# Altium schematic symbol library pporyzala-TI_Lighting.SchLib: 745 symbols (part 30 of 48)
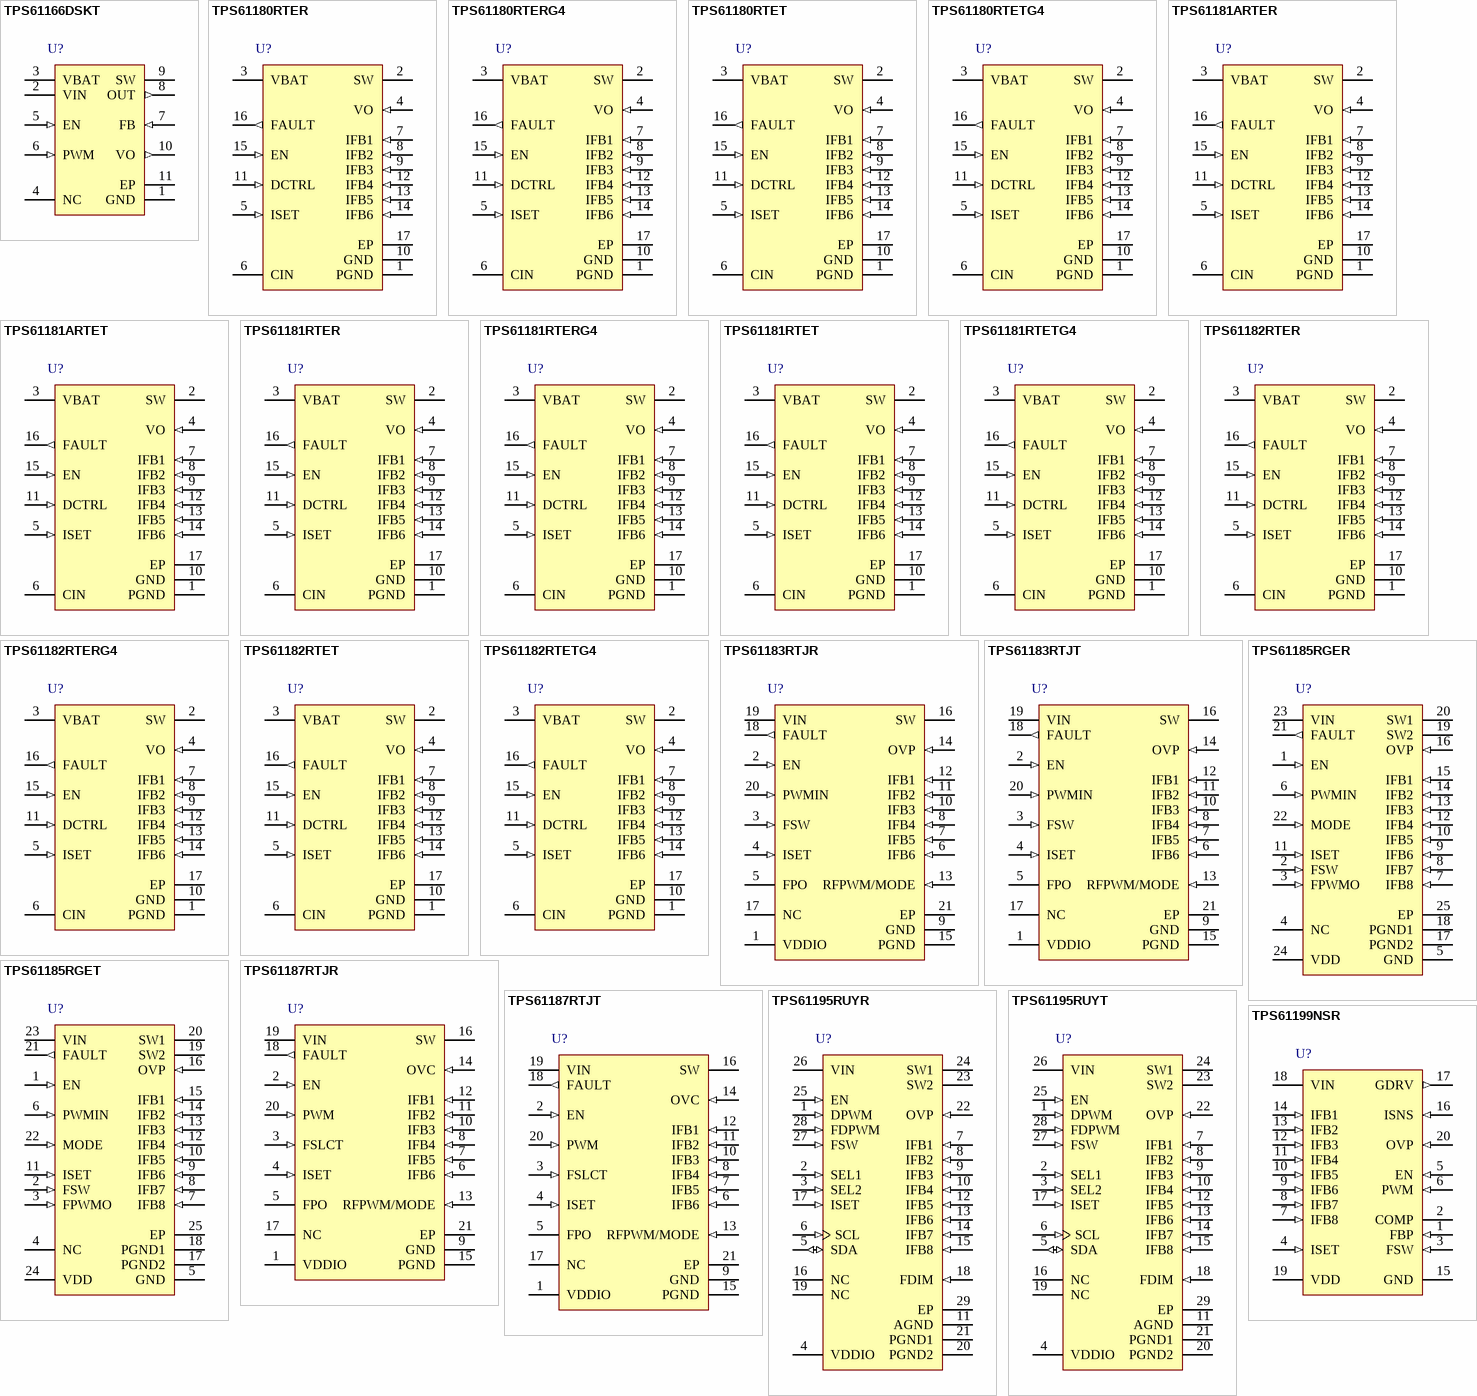
[diagram p60: symbols TPS61166DSKT to TPS61199NSR]

## TPS61181RTET
designator U?
1.5 A White LED Driver for Notebooks, 2.7 to 3.6 V, -40 to 85 degC, 16-pin QFN (RTE16), Green (RoHS & no Sb/Br); Manufacturer: Texas Instruments; PartNumber: TPS61181RTET; Dimming: TRUE; Iout(Max)(A): 1.5; Iq(Typ)(mA): 2; Rating: Catalog; Switching Frequency(Max)(kHz): 1000; Topology: Boost; Vin(Max)(V): 3.6; Vin(Min)(V): 2.7; DatasheetVersion: SLVS801D; PackageVersion: 4205254/D; PackageReference: RTE16-1700X1700TP; PackageDescription: 16-Pin Plastic Flat Pack, Body 3 x 3 mm, Pitch 0.5 mm; Supplier 1: Digi-Key; Supplier Part Number 1: 296-32503-2-ND; Supplier 2: Digi-Key; Supplier Part Number 2: 296-32503-1-ND; Supplier 3: Digi-Key; Supplier Part Number 3: 296-32503-6-ND; Supplier 4: Newark; Supplier Part Number 4: 72M5952; Supplier 5: Mouser; Supplier Part Number 5: 595-TPS61181RTET; Eco-Plan: Green (RoHS & no Sb/Br); SubFamily: White LED Driver; Synchronous Rectification: TRUE; Mounting Technology: Surface Mount; Code_JEDEC: MO-220; ComponentLink1Description: Manufacturer URL; ComponentLink1URL: http://www.ti.com/; ComponentLink2Description: Datasheet; ComponentLink2URL: http://www.ti.com/general/docs/lit/getliterature.tsp?genericPartNumber=TPS61181&fileType=pdf; ComponentLink3Description: Package Specification; ComponentLink3URL: http://www.ti.com/litv/pdf/mpqf149c
footprint TI-RTE16-1700X1700TP_V (QFN, 16-Leads, Body 3x3mm, Pitch 0.5mm, Thermal Pad 1.7x1.7mm)
pins: 1 PGND (power) "Power ground of the IC. Internally, it connects to the source of the PWM switch.", 2 SW (power) "This pin connects to the drain of the internal PWM switch, external Schottky diode and inductor.", 3 VBAT (power) "This pin is connected to the battery supply. It provides the pull-up voltage for the Fault pin and battery voltage signal. For TPS61181/2, this is also the input to the internal LDO.", 4 VO (in) "This pin monitors the output of the boost regulator. Connect this pin to the anode of the WLED strings.", 5 ISET (in) "The resistor on this pin programs the WLED output current.", 6 CIN (power) "Supply voltage of the IC. For TPS61181/2, it is the output of the internal LDO. Connect 0.1 uF bypass capacitor to this pin. For TPS61180, connect an external 3.3 V supply to power the IC.", 7 IFB1 (in) "Current sink regulation inputs. They are connected to the cathode of WLEDs. The PWM loop regulates the lowest VIFB to 400 mV. Each channel is limited to 25 mA current.", 8 IFB2 (in) "Current sink regulation inputs. They are connected to the cathode of WLEDs. The PWM loop regulates the lowest VIFB to 400 mV. Each channel is limited to 25 mA current.", 9 IFB3 (in) "Current sink regulation inputs. They are connected to the cathode of WLEDs. The PWM loop regulates the lowest VIFB to 400 mV. Each channel is limited to 25 mA current.", 10 GND (power) "Signal ground of the IC.", 11 DCTRL (in) "Dimming control logic input. The dimming frequency range is 100 Hz to 1 kHz", 12 IFB4 (in) "Current sink regulation inputs. They are connected to the cathode of WLEDs. The PWM loop regulates the lowest VIFB to 400 mV. Each channel is limited to 25 mA current.", 13 IFB5 (in) "Current sink regulation inputs. They are connected to the cathode of WLEDs. The PWM loop regulates the lowest VIFB to 400 mV. Each channel is limited to 25 mA current.", 14 IFB6 (in) "Current sink regulation inputs. They are connected to the cathode of WLEDs. The PWM loop regulates the lowest VIFB to 400 mV. Each channel is limited to 25 mA current.", 15 EN (in) "The enable pin to the IC. For TPS61181/2, a logic high signal turns on the internal LDO and enables the IC. Therefore, do not connect the EN pin to the Cin pin.", 16 FAULT (out) "Gate driver output for an external PFET used for fault protection. It can also be used as signal output for system fault report.", 17 EP "Exposed Thermal Pad"

## TPS61181RTETG4
designator U?
1.5 A White LED Driver for Notebooks, 2.7 to 3.6 V, -40 to 85 degC, 16-pin QFN (RTE16), Green (RoHS & no Sb/Br); Manufacturer: Texas Instruments; PartNumber: TPS61181RTETG4; Dimming: TRUE; Iout(Max)(A): 1.5; Iq(Typ)(mA): 2; Rating: Catalog; Switching Frequency(Max)(kHz): 1000; Topology: Boost; Vin(Max)(V): 3.6; Vin(Min)(V): 2.7; DatasheetVersion: SLVS801D; PackageVersion: 4205254/D; PackageReference: RTE16-1700X1700TP; PackageDescription: 16-Pin Plastic Flat Pack, Body 3 x 3 mm, Pitch 0.5 mm; Supplier 1: Digi-Key; Supplier Part Number 1: TPS61181RTETG4-ND; Supplier 2: Mouser; Supplier Part Number 2: 595-TPS61181RTETG4; Eco-Plan: Green (RoHS & no Sb/Br); SubFamily: White LED Driver; Synchronous Rectification: TRUE; Mounting Technology: Surface Mount; Code_JEDEC: MO-220; ComponentLink1Description: Manufacturer URL; ComponentLink1URL: http://www.ti.com/; ComponentLink2Description: Datasheet; ComponentLink2URL: http://www.ti.com/general/docs/lit/getliterature.tsp?genericPartNumber=TPS61181&fileType=pdf; ComponentLink3Description: Package Specification; ComponentLink3URL: http://www.ti.com/litv/pdf/mpqf149c
footprint TI-RTE16-1700X1700TP_V (QFN, 16-Leads, Body 3x3mm, Pitch 0.5mm, Thermal Pad 1.7x1.7mm)
pins: 1 PGND (power) "Power ground of the IC. Internally, it connects to the source of the PWM switch.", 2 SW (power) "This pin connects to the drain of the internal PWM switch, external Schottky diode and inductor.", 3 VBAT (power) "This pin is connected to the battery supply. It provides the pull-up voltage for the Fault pin and battery voltage signal. For TPS61181/2, this is also the input to the internal LDO.", 4 VO (in) "This pin monitors the output of the boost regulator. Connect this pin to the anode of the WLED strings.", 5 ISET (in) "The resistor on this pin programs the WLED output current.", 6 CIN (power) "Supply voltage of the IC. For TPS61181/2, it is the output of the internal LDO. Connect 0.1 uF bypass capacitor to this pin. For TPS61180, connect an external 3.3 V supply to power the IC.", 7 IFB1 (in) "Current sink regulation inputs. They are connected to the cathode of WLEDs. The PWM loop regulates the lowest VIFB to 400 mV. Each channel is limited to 25 mA current.", 8 IFB2 (in) "Current sink regulation inputs. They are connected to the cathode of WLEDs. The PWM loop regulates the lowest VIFB to 400 mV. Each channel is limited to 25 mA current.", 9 IFB3 (in) "Current sink regulation inputs. They are connected to the cathode of WLEDs. The PWM loop regulates the lowest VIFB to 400 mV. Each channel is limited to 25 mA current.", 10 GND (power) "Signal ground of the IC.", 11 DCTRL (in) "Dimming control logic input. The dimming frequency range is 100 Hz to 1 kHz", 12 IFB4 (in) "Current sink regulation inputs. They are connected to the cathode of WLEDs. The PWM loop regulates the lowest VIFB to 400 mV. Each channel is limited to 25 mA current.", 13 IFB5 (in) "Current sink regulation inputs. They are connected to the cathode of WLEDs. The PWM loop regulates the lowest VIFB to 400 mV. Each channel is limited to 25 mA current.", 14 IFB6 (in) "Current sink regulation inputs. They are connected to the cathode of WLEDs. The PWM loop regulates the lowest VIFB to 400 mV. Each channel is limited to 25 mA current.", 15 EN (in) "The enable pin to the IC. For TPS61181/2, a logic high signal turns on the internal LDO and enables the IC. Therefore, do not connect the EN pin to the Cin pin.", 16 FAULT (out) "Gate driver output for an external PFET used for fault protection. It can also be used as signal output for system fault report.", 17 EP "Exposed Thermal Pad"

## TPS61182RTER
designator U?
1.5 A White LED Driver for Notebooks, 2.7 to 3.6 V, -40 to 85 degC, 16-pin QFN (RTE16), Green (RoHS & no Sb/Br); Manufacturer: Texas Instruments; PartNumber: TPS61182RTER; Dimming: TRUE; Iout(Max)(A): 1.5; Iq(Typ)(mA): 2; Rating: Catalog; Switching Frequency(Max)(kHz): 1300; Topology: Boost; Vin(Max)(V): 3.6; Vin(Min)(V): 2.7; DatasheetVersion: SLVS801D; PackageVersion: 4205254/D; PackageReference: RTE16-1700X1700TP; PackageDescription: 16-Pin Plastic Flat Pack, Body 3 x 3 mm, Pitch 0.5 mm; Supplier 1: Digi-Key; Supplier Part Number 1: 296-23379-2-ND; Supplier 2: Digi-Key; Supplier Part Number 2: 296-23379-1-ND; Supplier 3: Digi-Key; Supplier Part Number 3: 296-23379-6-ND; Supplier 4: Newark; Supplier Part Number 4: 73M7845; Supplier 5: Mouser; Supplier Part Number 5: 595-TPS61182RTER; Eco-Plan: Green (RoHS & no Sb/Br); SubFamily: White LED Driver; Synchronous Rectification: TRUE; Mounting Technology: Surface Mount; Code_JEDEC: MO-220; ComponentLink1Description: Manufacturer URL; ComponentLink1URL: http://www.ti.com/; ComponentLink2Description: Datasheet; ComponentLink2URL: http://www.ti.com/general/docs/lit/getliterature.tsp?genericPartNumber=TPS61182&fileType=pdf; ComponentLink3Description: Package Specification; ComponentLink3URL: http://www.ti.com/litv/pdf/mpqf149c
footprint TI-RTE16-1700X1700TP_V (QFN, 16-Leads, Body 3x3mm, Pitch 0.5mm, Thermal Pad 1.7x1.7mm)
pins: 1 PGND (power) "Power ground of the IC. Internally, it connects to the source of the PWM switch.", 2 SW (power) "This pin connects to the drain of the internal PWM switch, external Schottky diode and inductor.", 3 VBAT (power) "This pin is connected to the battery supply. It provides the pull-up voltage for the Fault pin and battery voltage signal. This is also the input to the internal LDO.", 4 VO (in) "This pin monitors the output of the boost regulator. Connect this pin to the anode of the WLED strings.", 5 ISET (in) "The resistor on this pin programs the WLED output current.", 6 CIN (power) "Supply voltage of the IC. It is the output of the internal LDO. Connect 0.1 uF bypass capacitor to this pin.", 7 IFB1 (in) "Current sink regulation inputs. They are connected to the cathode of WLEDs. The PWM loop regulates the lowest VIFB to 400 mV. Each channel is limited to 30 mA current.", 8 IFB2 (in) "Current sink regulation inputs. They are connected to the cathode of WLEDs. The PWM loop regulates the lowest VIFB to 400 mV. Each channel is limited to 30 mA current.", 9 IFB3 (in) "Current sink regulation inputs. They are connected to the cathode of WLEDs. The PWM loop regulates the lowest VIFB to 400 mV. Each channel is limited to 30 mA current.", 10 GND (power) "Signal ground of the IC.", 11 DCTRL (in) "Dimming control logic input. The dimming frequency range is 100 Hz to 1 kHz.", 12 IFB4 (in) "Current sink regulation inputs. They are connected to the cathode of WLEDs. The PWM loop regulates the lowest VIFB to 400 mV. Each channel is limited to 30 mA current.", 13 IFB5 (in) "Current sink regulation inputs. They are connected to the cathode of WLEDs. The PWM loop regulates the lowest VIFB to 400 mV. Each channel is limited to 30 mA current.", 14 IFB6 (in) "Current sink regulation inputs. They are connected to the cathode of WLEDs. The PWM loop regulates the lowest VIFB to 400 mV. Each channel is limited to 30 mA current.", 15 EN (in) "The enable pin to the IC. A logic high signal turns on the internal LDO and enables the IC. Therefore, do not connect the EN pin to the Cin pin.", 16 FAULT (out) "Gate driver output for an external PFET used for fault protection. It can also be used as signal output for system fault report.", 17 EP (power) "Exposed thermal pad."

## TPS61182RTERG4
designator U?
1.5 A White LED Driver for Notebooks, 2.7 to 3.6 V, -40 to 85 degC, 16-pin QFN (RTE16), Green (RoHS & no Sb/Br); Manufacturer: Texas Instruments; PartNumber: TPS61182RTERG4; Dimming: TRUE; Iout(Max)(A): 1.5; Iq(Typ)(mA): 2; Rating: Catalog; Switching Frequency(Max)(kHz): 1300; Topology: Boost; Vin(Max)(V): 3.6; Vin(Min)(V): 2.7; DatasheetVersion: SLVS801D; PackageVersion: 4205254/D; PackageReference: RTE16-1700X1700TP; PackageDescription: 16-Pin Plastic Flat Pack, Body 3 x 3 mm, Pitch 0.5 mm; Supplier 1: Digi-Key; Supplier Part Number 1: TPS61182RTERG4-ND; Supplier 2: Mouser; Supplier Part Number 2: 595-TPS61182RTERG4; Eco-Plan: Green (RoHS & no Sb/Br); SubFamily: White LED Driver; Synchronous Rectification: TRUE; Mounting Technology: Surface Mount; Code_JEDEC: MO-220; ComponentLink1Description: Manufacturer URL; ComponentLink1URL: http://www.ti.com/; ComponentLink2Description: Datasheet; ComponentLink2URL: http://www.ti.com/general/docs/lit/getliterature.tsp?genericPartNumber=TPS61182&fileType=pdf; ComponentLink3Description: Package Specification; ComponentLink3URL: http://www.ti.com/litv/pdf/mpqf149c
footprint TI-RTE16-1700X1700TP_V (QFN, 16-Leads, Body 3x3mm, Pitch 0.5mm, Thermal Pad 1.7x1.7mm)
pins: 1 PGND (power) "Power ground of the IC. Internally, it connects to the source of the PWM switch.", 2 SW (power) "This pin connects to the drain of the internal PWM switch, external Schottky diode and inductor.", 3 VBAT (power) "This pin is connected to the battery supply. It provides the pull-up voltage for the Fault pin and battery voltage signal. This is also the input to the internal LDO.", 4 VO (in) "This pin monitors the output of the boost regulator. Connect this pin to the anode of the WLED strings.", 5 ISET (in) "The resistor on this pin programs the WLED output current.", 6 CIN (power) "Supply voltage of the IC. It is the output of the internal LDO. Connect 0.1 uF bypass capacitor to this pin.", 7 IFB1 (in) "Current sink regulation inputs. They are connected to the cathode of WLEDs. The PWM loop regulates the lowest VIFB to 400 mV. Each channel is limited to 30 mA current.", 8 IFB2 (in) "Current sink regulation inputs. They are connected to the cathode of WLEDs. The PWM loop regulates the lowest VIFB to 400 mV. Each channel is limited to 30 mA current.", 9 IFB3 (in) "Current sink regulation inputs. They are connected to the cathode of WLEDs. The PWM loop regulates the lowest VIFB to 400 mV. Each channel is limited to 30 mA current.", 10 GND (power) "Signal ground of the IC.", 11 DCTRL (in) "Dimming control logic input. The dimming frequency range is 100 Hz to 1 kHz.", 12 IFB4 (in) "Current sink regulation inputs. They are connected to the cathode of WLEDs. The PWM loop regulates the lowest VIFB to 400 mV. Each channel is limited to 30 mA current.", 13 IFB5 (in) "Current sink regulation inputs. They are connected to the cathode of WLEDs. The PWM loop regulates the lowest VIFB to 400 mV. Each channel is limited to 30 mA current.", 14 IFB6 (in) "Current sink regulation inputs. They are connected to the cathode of WLEDs. The PWM loop regulates the lowest VIFB to 400 mV. Each channel is limited to 30 mA current.", 15 EN (in) "The enable pin to the IC. A logic high signal turns on the internal LDO and enables the IC. Therefore, do not connect the EN pin to the Cin pin.", 16 FAULT (out) "Gate driver output for an external PFET used for fault protection. It can also be used as signal output for system fault report.", 17 EP (power) "Exposed thermal pad."

## TPS61182RTET
designator U?
1.5 A White LED Driver for Notebooks, 2.7 to 3.6 V, -40 to 85 degC, 16-pin QFN (RTE16), Green (RoHS & no Sb/Br); Manufacturer: Texas Instruments; PartNumber: TPS61182RTET; Dimming: TRUE; Iout(Max)(A): 1.5; Iq(Typ)(mA): 2; Rating: Catalog; Switching Frequency(Max)(kHz): 1300; Topology: Boost; Vin(Max)(V): 3.6; Vin(Min)(V): 2.7; DatasheetVersion: SLVS801D; PackageVersion: 4205254/D; PackageReference: RTE16-1700X1700TP; PackageDescription: 16-Pin Plastic Flat Pack, Body 3 x 3 mm, Pitch 0.5 mm; Supplier 1: Digi-Key; Supplier Part Number 1: 296-32504-2-ND; Supplier 2: Digi-Key; Supplier Part Number 2: 296-32504-1-ND; Supplier 3: Digi-Key; Supplier Part Number 3: 296-32504-6-ND; Supplier 4: Newark; Supplier Part Number 4: 72M5954; Supplier 5: Mouser; Supplier Part Number 5: 595-TPS61182RTET; Eco-Plan: Green (RoHS & no Sb/Br); SubFamily: White LED Driver; Synchronous Rectification: TRUE; Mounting Technology: Surface Mount; Code_JEDEC: MO-220; ComponentLink1Description: Manufacturer URL; ComponentLink1URL: http://www.ti.com/; ComponentLink2Description: Datasheet; ComponentLink2URL: http://www.ti.com/general/docs/lit/getliterature.tsp?genericPartNumber=TPS61182&fileType=pdf; ComponentLink3Description: Package Specification; ComponentLink3URL: http://www.ti.com/litv/pdf/mpqf149c
footprint TI-RTE16-1700X1700TP_V (QFN, 16-Leads, Body 3x3mm, Pitch 0.5mm, Thermal Pad 1.7x1.7mm)
pins: 1 PGND (power) "Power ground of the IC. Internally, it connects to the source of the PWM switch.", 2 SW (power) "This pin connects to the drain of the internal PWM switch, external Schottky diode and inductor.", 3 VBAT (power) "This pin is connected to the battery supply. It provides the pull-up voltage for the Fault pin and battery voltage signal. This is also the input to the internal LDO.", 4 VO (in) "This pin monitors the output of the boost regulator. Connect this pin to the anode of the WLED strings.", 5 ISET (in) "The resistor on this pin programs the WLED output current.", 6 CIN (power) "Supply voltage of the IC. It is the output of the internal LDO. Connect 0.1 uF bypass capacitor to this pin.", 7 IFB1 (in) "Current sink regulation inputs. They are connected to the cathode of WLEDs. The PWM loop regulates the lowest VIFB to 400 mV. Each channel is limited to 30 mA current.", 8 IFB2 (in) "Current sink regulation inputs. They are connected to the cathode of WLEDs. The PWM loop regulates the lowest VIFB to 400 mV. Each channel is limited to 30 mA current.", 9 IFB3 (in) "Current sink regulation inputs. They are connected to the cathode of WLEDs. The PWM loop regulates the lowest VIFB to 400 mV. Each channel is limited to 30 mA current.", 10 GND (power) "Signal ground of the IC.", 11 DCTRL (in) "Dimming control logic input. The dimming frequency range is 100 Hz to 1 kHz.", 12 IFB4 (in) "Current sink regulation inputs. They are connected to the cathode of WLEDs. The PWM loop regulates the lowest VIFB to 400 mV. Each channel is limited to 30 mA current.", 13 IFB5 (in) "Current sink regulation inputs. They are connected to the cathode of WLEDs. The PWM loop regulates the lowest VIFB to 400 mV. Each channel is limited to 30 mA current.", 14 IFB6 (in) "Current sink regulation inputs. They are connected to the cathode of WLEDs. The PWM loop regulates the lowest VIFB to 400 mV. Each channel is limited to 30 mA current.", 15 EN (in) "The enable pin to the IC. A logic high signal turns on the internal LDO and enables the IC. Therefore, do not connect the EN pin to the Cin pin.", 16 FAULT (out) "Gate driver output for an external PFET used for fault protection. It can also be used as signal output for system fault report.", 17 EP (power) "Exposed thermal pad."

## TPS61182RTETG4
designator U?
1.5 A White LED Driver for Notebooks, 2.7 to 3.6 V, -40 to 85 degC, 16-pin QFN (RTE16), Green (RoHS & no Sb/Br); Manufacturer: Texas Instruments; PartNumber: TPS61182RTETG4; Dimming: TRUE; Iout(Max)(A): 1.5; Iq(Typ)(mA): 2; Rating: Catalog; Switching Frequency(Max)(kHz): 1300; Topology: Boost; Vin(Max)(V): 3.6; Vin(Min)(V): 2.7; DatasheetVersion: SLVS801D; PackageVersion: 4205254/D; PackageReference: RTE16-1700X1700TP; PackageDescription: 16-Pin Plastic Flat Pack, Body 3 x 3 mm, Pitch 0.5 mm; Supplier 1: Digi-Key; Supplier Part Number 1: TPS61182RTETG4-ND; Supplier 2: Mouser; Supplier Part Number 2: 595-TPS61182RTETG4; Eco-Plan: Green (RoHS & no Sb/Br); SubFamily: White LED Driver; Synchronous Rectification: TRUE; Mounting Technology: Surface Mount; Code_JEDEC: MO-220; ComponentLink1Description: Manufacturer URL; ComponentLink1URL: http://www.ti.com/; ComponentLink2Description: Datasheet; ComponentLink2URL: http://www.ti.com/general/docs/lit/getliterature.tsp?genericPartNumber=TPS61182&fileType=pdf; ComponentLink3Description: Package Specification; ComponentLink3URL: http://www.ti.com/litv/pdf/mpqf149c
footprint TI-RTE16-1700X1700TP_V (QFN, 16-Leads, Body 3x3mm, Pitch 0.5mm, Thermal Pad 1.7x1.7mm)
pins: 1 PGND (power) "Power ground of the IC. Internally, it connects to the source of the PWM switch.", 2 SW (power) "This pin connects to the drain of the internal PWM switch, external Schottky diode and inductor.", 3 VBAT (power) "This pin is connected to the battery supply. It provides the pull-up voltage for the Fault pin and battery voltage signal. This is also the input to the internal LDO.", 4 VO (in) "This pin monitors the output of the boost regulator. Connect this pin to the anode of the WLED strings.", 5 ISET (in) "The resistor on this pin programs the WLED output current.", 6 CIN (power) "Supply voltage of the IC. It is the output of the internal LDO. Connect 0.1 uF bypass capacitor to this pin.", 7 IFB1 (in) "Current sink regulation inputs. They are connected to the cathode of WLEDs. The PWM loop regulates the lowest VIFB to 400 mV. Each channel is limited to 30 mA current.", 8 IFB2 (in) "Current sink regulation inputs. They are connected to the cathode of WLEDs. The PWM loop regulates the lowest VIFB to 400 mV. Each channel is limited to 30 mA current.", 9 IFB3 (in) "Current sink regulation inputs. They are connected to the cathode of WLEDs. The PWM loop regulates the lowest VIFB to 400 mV. Each channel is limited to 30 mA current.", 10 GND (power) "Signal ground of the IC.", 11 DCTRL (in) "Dimming control logic input. The dimming frequency range is 100 Hz to 1 kHz.", 12 IFB4 (in) "Current sink regulation inputs. They are connected to the cathode of WLEDs. The PWM loop regulates the lowest VIFB to 400 mV. Each channel is limited to 30 mA current.", 13 IFB5 (in) "Current sink regulation inputs. They are connected to the cathode of WLEDs. The PWM loop regulates the lowest VIFB to 400 mV. Each channel is limited to 30 mA current.", 14 IFB6 (in) "Current sink regulation inputs. They are connected to the cathode of WLEDs. The PWM loop regulates the lowest VIFB to 400 mV. Each channel is limited to 30 mA current.", 15 EN (in) "The enable pin to the IC. A logic high signal turns on the internal LDO and enables the IC. Therefore, do not connect the EN pin to the Cin pin.", 16 FAULT (out) "Gate driver output for an external PFET used for fault protection. It can also be used as signal output for system fault report.", 17 EP (power) "Exposed thermal pad."

## TPS61183RTJR
designator U?
WLED Driver for Notebooks with PWM Interface and Programmable PWM Dimming, 4.5 to 24 V, -40 to 85 degC, 20-pin QFN (RTJ20), Green (RoHS & no Sb/Br); Manufacturer: Texas Instruments; PartNumber: TPS61183RTJR; Dimming: TRUE; Rating: Catalog; SubFamily: White LED Driver; Switching Frequency(Max)(kHz): 1200; Topology: Boost; Vin(Max)(V): 24; Vin(Min)(V): 4.5; DatasheetVersion: SLVSAB4B; PackageVersion: 4205505/F; PackageReference: RTJ20-2700X2700TP; PackageDescription: 20-pin Plastic Flat Pack, Body 4 x 4 mm, Pitch 0.5 mm; Supplier 1: Digi-Key; Supplier Part Number 1: TPS61183RTJR-ND; Supplier 2: Newark; Supplier Part Number 2: 01T0836; Supplier 3: Mouser; Supplier Part Number 3: 595-TPS61183RTJR; Eco-Plan: Green (RoHS & no Sb/Br); Synchronous Rectification: TRUE; Mounting Technology: Surface Mount; ComponentLink1Description: Manufacturer URL; ComponentLink1URL: http://www.ti.com/; ComponentLink2Description: Datasheet; ComponentLink2URL: http://www.ti.com/general/docs/lit/getliterature.tsp?genericPartNumber=TPS61183&fileType=pdf; ComponentLink3Description: Package Specification; ComponentLink3URL: http://www.ti.com/litv/pdf/mpqf156e
footprint TI-RTJ20-2700X2700TP_V (QFN, 20-Leads, Body 4x4mm, Pitch 0.5mm, Thermal Pad 2.7x2.7mm)
pins: 1 VDDIO (power) "Internal pre_regulator. Connect a 1 uF ceramic capacitor to VDDIO.", 2 EN (in) "Enable", 3 FSW (in) "Switching frequency selection pin. Use a resistor to set the frequency between 300kHz to 1.0MHz", 4 ISET (in) "Full-scale LED current set pin. Connecting a resistor to the pin programs the current level.", 5 FPO (oc) "Fault protection output to indicate fault conditions including OVP, OC, and OT", 6 IFB6 (in) "Regulated current sink input pins", 7 IFB5 (in) "Regulated current sink input pins", 8 IFB4 (in) "Regulated current sink input pins", 9 GND (power) "Analog ground", 10 IFB3 (in) "Regulated current sink input pins", 11 IFB2 (in) "Regulated current sink input pins", 12 IFB1 (in) "Regulated current sink input pins", 13 RFPWM/MODE (in) "Dimming frequency program pin with an external resistor / mode selection", 14 OVP (in) "Over-voltage clamp pin / voltage feedback", 15 PGND (power) "Power ground", 16 SW (power) "Drain connection of the internal power FET", 17 NC "No connection", 18 FAULT (out) "Fault pin to drive external ISO FET", 19 VIN (power) "Supply input pin", 20 PWMIN (in) "PWM signal input pin", 21 EP "Exopsed Thermal Pad"

## TPS61183RTJT
designator U?
WLED Driver for Notebooks with PWM Interface and Programmable PWM Dimming, 4.5 to 24 V, -40 to 85 degC, 20-pin QFN (RTJ20), Green (RoHS & no Sb/Br); Manufacturer: Texas Instruments; PartNumber: TPS61183RTJT; Dimming: TRUE; Rating: Catalog; SubFamily: White LED Driver; Switching Frequency(Max)(kHz): 1200; Topology: Boost; Vin(Max)(V): 24; Vin(Min)(V): 4.5; DatasheetVersion: SLVSAB4B; PackageVersion: 4205505/F; PackageReference: RTJ20-2700X2700TP; PackageDescription: 20-pin Plastic Flat Pack, Body 4 x 4 mm, Pitch 0.5 mm; Supplier 1: Digi-Key; Supplier Part Number 1: 296-27754-2-ND; Supplier 2: Digi-Key; Supplier Part Number 2: 296-27754-1-ND; Supplier 3: Digi-Key; Supplier Part Number 3: 296-27754-6-ND; Supplier 4: Newark; Supplier Part Number 4: 01T0837; Supplier 5: Mouser; Supplier Part Number 5: 595-TPS61183RTJT; Eco-Plan: Green (RoHS & no Sb/Br); Synchronous Rectification: TRUE; Mounting Technology: Surface Mount; ComponentLink1Description: Manufacturer URL; ComponentLink1URL: http://www.ti.com/; ComponentLink2Description: Datasheet; ComponentLink2URL: http://www.ti.com/general/docs/lit/getliterature.tsp?genericPartNumber=TPS61183&fileType=pdf; ComponentLink3Description: Package Specification; ComponentLink3URL: http://www.ti.com/litv/pdf/mpqf156e
footprint TI-RTJ20-2700X2700TP_V (QFN, 20-Leads, Body 4x4mm, Pitch 0.5mm, Thermal Pad 2.7x2.7mm)
pins: 1 VDDIO (power) "Internal pre_regulator. Connect a 1 uF ceramic capacitor to VDDIO.", 2 EN (in) "Enable", 3 FSW (in) "Switching frequency selection pin. Use a resistor to set the frequency between 300kHz to 1.0MHz", 4 ISET (in) "Full-scale LED current set pin. Connecting a resistor to the pin programs the current level.", 5 FPO (oc) "Fault protection output to indicate fault conditions including OVP, OC, and OT", 6 IFB6 (in) "Regulated current sink input pins", 7 IFB5 (in) "Regulated current sink input pins", 8 IFB4 (in) "Regulated current sink input pins", 9 GND (power) "Analog ground", 10 IFB3 (in) "Regulated current sink input pins", 11 IFB2 (in) "Regulated current sink input pins", 12 IFB1 (in) "Regulated current sink input pins", 13 RFPWM/MODE (in) "Dimming frequency program pin with an external resistor / mode selection", 14 OVP (in) "Over-voltage clamp pin / voltage feedback", 15 PGND (power) "Power ground", 16 SW (power) "Drain connection of the internal power FET", 17 NC "No connection", 18 FAULT (out) "Fault pin to drive external ISO FET", 19 VIN (power) "Supply input pin", 20 PWMIN (in) "PWM signal input pin", 21 EP "Exopsed Thermal Pad"

## TPS61185RGER
designator U?
2 A WLED Driver for Notebooks with PWM Control Interface, 4.2 to 24 V, -40 to 85 degC, 24-pin QFN (RGE24), Green (RoHS & no Sb/Br); Manufacturer: Texas Instruments; PartNumber: TPS61185RGER; Dimming: TRUE; Iq(Typ)(mA): 2; Rating: Catalog; SubFamily: White LED Driver; Switching Frequency(Max)(kHz): 2000; Topology: Boost; Vin(Max)(V): 24; Vin(Min)(V): 4.2; DatasheetVersion: SLVSAA1A; PackageVersion: 4204104/G; PackageReference: RGE24-2450X2450TP; PackageDescription: 24-Pin Plastic Flat Pack, Body 4 x 4 mm, 0.5 mm Pitch; Supplier 1: Digi-Key; Supplier Part Number 1: 296-27506-2-ND; Supplier 2: Digi-Key; Supplier Part Number 2: 296-27506-1-ND; Supplier 3: Digi-Key; Supplier Part Number 3: 296-27506-6-ND; Supplier 4: Newark; Supplier Part Number 4: 79R8566; Supplier 5: Mouser; Supplier Part Number 5: 595-TPS61185RGER; Eco-Plan: Green (RoHS & no Sb/Br); Synchronous Rectification: TRUE; Mounting Technology: Surface Mount; Code_JEDEC: MO-220; ComponentLink1Description: Manufacturer URL; ComponentLink1URL: http://www.ti.com/; ComponentLink2Description: Datasheet; ComponentLink2URL: http://www.ti.com/general/docs/lit/getliterature.tsp?genericPartNumber=TPS61185&fileType=pdf; ComponentLink3Description: Package Specification; ComponentLink3URL: http://www.ti.com/litv/pdf/mpqf124f
footprint TI-RGE24-2450X2450TP_V (QFN, 24-Leads, Body 4x4mm, Pitch 0.5mm, Thermal Pad 2.45x2.45mm)
pins: 1 EN (in) "Device enable pin.", 2 FSW (in) "Switching frequency program pin. Use a resistor from this pin to GND to set the boost switch frequency from 600 kHz to 2 MHz.", 3 FPWMO (in) "Dimming frequency program pin. When the mode pin is open or pulled high, the resistor on this pin to GND programs the PWM dimming frequency between 100 Hz to 5 kHz.", 4 NC "No connection pin.", 5 GND (power) "Signal ground of the IC. Tie the ground of noise sensitive components to GND.", 6 PWMIN (in) "Dimming control logic input. The dimming frequency range is 100 Hz to 20 kHz.", 7 IFB8 (in) "Current sink regulation input. They are connected to the cathode of the WLEDs. Connect any unused IFB pins to GND or leave open. The PWM loop regulates the lowest VIFB to 400 mV. Each channel is limited to 25 mA current.", 8 IFB7 (in) "Current sink regulation input. They are connected to the cathode of the WLEDs. Connect any unused IFB pins to GND or leave open. The PWM loop regulates the lowest VIFB to 400 mV. Each channel is limited to 25 mA current.", 9 IFB6 (in) "Current sink regulation input. They are connected to the cathode of the WLEDs. Connect any unused IFB pins to GND or leave open. The PWM loop regulates the lowest VIFB to 400 mV. Each channel is limited to 25 mA current.", 10 IFB5 (in) "Current sink regulation input. They are connected to the cathode of the WLEDs. Connect any unused IFB pins to GND or leave open. The PWM loop regulates the lowest VIFB to 400 mV. Each channel is limited to 25 mA current.", 11 ISET (in) "The resistor on this pin programs WLED output current. Tie resistor ground to GND.", 12 IFB4 (in) "Current sink regulation input. They are connected to the cathode of the WLEDs. Connect any unused IFB pins to GND or leave open. The PWM loop regulates the lowest VIFB to 400 mV. Each channel is limited to 25 mA current.", 13 IFB3 (in) "Current sink regulation input. They are connected to the cathode of the WLEDs. Connect any unused IFB pins to GND or leave open. The PWM loop regulates the lowest VIFB to 400 mV. Each channel is limited to 25 mA current.", 14 IFB2 (in) "Current sink regulation input. They are connected to the cathode of the WLEDs. Connect any unused IFB pins to GND or leave open. The PWM loop regulates the lowest VIFB to 400 mV. Each channel is limited to 25 mA current.", 15 IFB1 (in) "Current sink regulation input. They are connected to the cathode of the WLEDs. Connect any unused IFB pins to GND or leave open. The PWM loop regulates the lowest VIFB to 400 mV. Each channel is limited to 25 mA current.", 16 OVP (in) "Over voltage programming pin. The OVP voltage threshold is set through an external resistor divider combination according to equation 4.", 17 PGND2 (power) "Power grounds of the IC. Internally connect to the source of the PWM switch. Tie the ground of power stage components to these grounds.", 18 PGND1 (power) "Power grounds of the IC. Internally connect to the source of the PWM switch. Tie the ground of power stage components to these grounds.", 19 SW2 (power) "Drain connections of the internal PWM switch MOSFET and external Schottky diode.", 20 SW1 (power) "Drain connections of the internal PWM switch MOSFET and external Schottky diode.", 21 FAULT (out) "Gate driver output for an external PFET used for fault protection. It can also be used as signal output for system fault report.", 22 MODE (in) "Dimming mode select pin. When MODE is high or open, the internal dimming frequency is programmable by a resistor on pin 3 (FPWMO pin); when MODE is low, the internal dimming frequency is the same as the PWM input signal on (See Datasheet)", 23 VIN (power) "This pin is connected to the battery supply. It also provides the pull-up voltage for the FAULT pin.", 24 VDD (power) "The supply rail of internal logic. Connect a 1-uF capacitor from VDD to GND.", 25 EP "Exposed Thermal Pad"

## TPS61185RGET
designator U?
2 A WLED Driver for Notebooks with PWM Control Interface, 4.2 to 24 V, -40 to 85 degC, 24-pin QFN (RGE24), Green (RoHS & no Sb/Br); Manufacturer: Texas Instruments; PartNumber: TPS61185RGET; Dimming: TRUE; Iq(Typ)(mA): 2; Rating: Catalog; SubFamily: White LED Driver; Switching Frequency(Max)(kHz): 2000; Topology: Boost; Vin(Max)(V): 24; Vin(Min)(V): 4.2; DatasheetVersion: SLVSAA1A; PackageVersion: 4204104/G; PackageReference: RGE24-2450X2450TP; PackageDescription: 24-Pin Plastic Flat Pack, Body 4 x 4 mm, 0.5 mm Pitch; Supplier 1: Digi-Key; Supplier Part Number 1: TPS61185RGET-ND; Supplier 2: Newark; Supplier Part Number 2: 79R8567; Supplier 3: Mouser; Supplier Part Number 3: 595-TPS61185RGET; Eco-Plan: Green (RoHS & no Sb/Br); Synchronous Rectification: TRUE; Mounting Technology: Surface Mount; Code_JEDEC: MO-220; ComponentLink1Description: Manufacturer URL; ComponentLink1URL: http://www.ti.com/; ComponentLink2Description: Datasheet; ComponentLink2URL: http://www.ti.com/general/docs/lit/getliterature.tsp?genericPartNumber=TPS61185&fileType=pdf; ComponentLink3Description: Package Specification; ComponentLink3URL: http://www.ti.com/litv/pdf/mpqf124f
footprint TI-RGE24-2450X2450TP_V (QFN, 24-Leads, Body 4x4mm, Pitch 0.5mm, Thermal Pad 2.45x2.45mm)
pins: 1 EN (in) "Device enable pin.", 2 FSW (in) "Switching frequency program pin. Use a resistor from this pin to GND to set the boost switch frequency from 600 kHz to 2 MHz.", 3 FPWMO (in) "Dimming frequency program pin. When the mode pin is open or pulled high, the resistor on this pin to GND programs the PWM dimming frequency between 100 Hz to 5 kHz.", 4 NC "No connection pin.", 5 GND (power) "Signal ground of the IC. Tie the ground of noise sensitive components to GND.", 6 PWMIN (in) "Dimming control logic input. The dimming frequency range is 100 Hz to 20 kHz.", 7 IFB8 (in) "Current sink regulation input. They are connected to the cathode of the WLEDs. Connect any unused IFB pins to GND or leave open. The PWM loop regulates the lowest VIFB to 400 mV. Each channel is limited to 25 mA current.", 8 IFB7 (in) "Current sink regulation input. They are connected to the cathode of the WLEDs. Connect any unused IFB pins to GND or leave open. The PWM loop regulates the lowest VIFB to 400 mV. Each channel is limited to 25 mA current.", 9 IFB6 (in) "Current sink regulation input. They are connected to the cathode of the WLEDs. Connect any unused IFB pins to GND or leave open. The PWM loop regulates the lowest VIFB to 400 mV. Each channel is limited to 25 mA current.", 10 IFB5 (in) "Current sink regulation input. They are connected to the cathode of the WLEDs. Connect any unused IFB pins to GND or leave open. The PWM loop regulates the lowest VIFB to 400 mV. Each channel is limited to 25 mA current.", 11 ISET (in) "The resistor on this pin programs WLED output current. Tie resistor ground to GND.", 12 IFB4 (in) "Current sink regulation input. They are connected to the cathode of the WLEDs. Connect any unused IFB pins to GND or leave open. The PWM loop regulates the lowest VIFB to 400 mV. Each channel is limited to 25 mA current.", 13 IFB3 (in) "Current sink regulation input. They are connected to the cathode of the WLEDs. Connect any unused IFB pins to GND or leave open. The PWM loop regulates the lowest VIFB to 400 mV. Each channel is limited to 25 mA current.", 14 IFB2 (in) "Current sink regulation input. They are connected to the cathode of the WLEDs. Connect any unused IFB pins to GND or leave open. The PWM loop regulates the lowest VIFB to 400 mV. Each channel is limited to 25 mA current.", 15 IFB1 (in) "Current sink regulation input. They are connected to the cathode of the WLEDs. Connect any unused IFB pins to GND or leave open. The PWM loop regulates the lowest VIFB to 400 mV. Each channel is limited to 25 mA current.", 16 OVP (in) "Over voltage programming pin. The OVP voltage threshold is set through an external resistor divider combination according to equation 4.", 17 PGND2 (power) "Power grounds of the IC. Internally connect to the source of the PWM switch. Tie the ground of power stage components to these grounds.", 18 PGND1 (power) "Power grounds of the IC. Internally connect to the source of the PWM switch. Tie the ground of power stage components to these grounds.", 19 SW2 (power) "Drain connections of the internal PWM switch MOSFET and external Schottky diode.", 20 SW1 (power) "Drain connections of the internal PWM switch MOSFET and external Schottky diode.", 21 FAULT (out) "Gate driver output for an external PFET used for fault protection. It can also be used as signal output for system fault report.", 22 MODE (in) "Dimming mode select pin. When MODE is high or open, the internal dimming frequency is programmable by a resistor on pin 3 (FPWMO pin); when MODE is low, the internal dimming frequency is the same as the PWM input signal on (See Datasheet)", 23 VIN (power) "This pin is connected to the battery supply. It also provides the pull-up voltage for the FAULT pin.", 24 VDD (power) "The supply rail of internal logic. Connect a 1-uF capacitor from VDD to GND.", 25 EP "Exposed Thermal Pad"

## TPS61187RTJR
designator U?
WLED Driver for Notebooks with PWM Interface and Auto Phase Shift, 4.5 to 24 V, -40 to 85 degC, 20-pin QFN (RTJ20), Green (RoHS & no Sb/Br); Manufacturer: Texas Instruments; PartNumber: TPS61187RTJR; Dimming: TRUE; Rating: Catalog; SubFamily: White LED Driver; Switching Frequency(Max)(kHz): 1000; Topology: Boost; Vin(Max)(V): 24; Vin(Min)(V): 4.5; DatasheetVersion: SLVSA85D; PackageVersion: 4205505/F; PackageReference: RTJ20-2700X2700TP; PackageDescription: 20-pin Plastic Flat Pack, Body 4 x 4 mm, Pitch 0.5 mm; Supplier 1: Digi-Key; Supplier Part Number 1: TPS61187RTJR-ND; Supplier 2: Newark; Supplier Part Number 2: 94T1864; Supplier 3: Mouser; Supplier Part Number 3: 595-TPS61187RTJR; Eco-Plan: Green (RoHS & no Sb/Br); Synchronous Rectification: TRUE; Mounting Technology: Surface Mount; ComponentLink1Description: Manufacturer URL; ComponentLink1URL: http://www.ti.com/; ComponentLink2Description: Datasheet; ComponentLink2URL: http://www.ti.com/general/docs/lit/getliterature.tsp?genericPartNumber=tps61187&fileType=pdf; ComponentLink3Description: Package Specification; ComponentLink3URL: http://www.ti.com/litv/pdf/mpqf156e
footprint TI-RTJ20-2700X2700TP_V (QFN, 20-Leads, Body 4x4mm, Pitch 0.5mm, Thermal Pad 2.7x2.7mm)
pins: 1 VDDIO (power) "Internal pre_regulator. Connect a 1.0 uF ceramic capacitor to VDDIO.", 2 EN (in) "Enable", 3 FSLCT (in) "Switching frequency selection pin. Use a resistor to set the frequency between 300kHz to 1.0MHz", 4 ISET (in) "Full-scale LED current set pin. Connecting a resistor to the pin programs the current level.", 5 FPO (oc) "Fault protection output to indicate fault conditions including OVP, OC, and OT", 6 IFB6 (in) "Regulated current sink input pin", 7 IFB5 (in) "Regulated current sink input pin", 8 IFB4 (in) "Regulated current sink input pin", 9 GND (power) "Analog ground", 10 IFB3 (in) "Regulated current sink input pin", 11 IFB2 (in) "Regulated current sink input pin", 12 IFB1 (in) "Regulated current sink input pin", 13 RFPWM/MODE (in) "Dimming frequency program pin with an external resistor / mode selection", 14 OVC (in) "Over-voltage clamp pin / voltage feedback", 15 PGND (power) "Power ground", 16 SW (power) "Drain connection of the internal power FET", 17 NC "No connection", 18 FAULT (out) "Fault pin to drive external ISO FET", 19 VIN (power) "Supply input pin", 20 PWM (in) "PWM signal input pin", 21 EP (power) "Thermal pad need to be soldered on to the PCB and connected to the GND pin of the IC"

## TPS61187RTJT
designator U?
WLED Driver for Notebooks with PWM Interface and Auto Phase Shift, 4.5 to 24 V, -40 to 85 degC, 20-pin QFN (RTJ20), Green (RoHS & no Sb/Br); Manufacturer: Texas Instruments; PartNumber: TPS61187RTJT; Dimming: TRUE; Rating: Catalog; SubFamily: White LED Driver; Switching Frequency(Max)(kHz): 1000; Topology: Boost; Vin(Max)(V): 24; Vin(Min)(V): 4.5; DatasheetVersion: SLVSA85D; PackageVersion: 4205505/F; PackageReference: RTJ20-2700X2700TP; PackageDescription: 20-pin Plastic Flat Pack, Body 4 x 4 mm, Pitch 0.5 mm; Supplier 1: Digi-Key; Supplier Part Number 1: TPS61187RTJT-ND; Supplier 2: Newark; Supplier Part Number 2: 94T1865; Supplier 3: Mouser; Supplier Part Number 3: 595-TPS61187RTJT; Eco-Plan: Green (RoHS & no Sb/Br); Synchronous Rectification: TRUE; Mounting Technology: Surface Mount; ComponentLink1Description: Manufacturer URL; ComponentLink1URL: http://www.ti.com/; ComponentLink2Description: Datasheet; ComponentLink2URL: http://www.ti.com/general/docs/lit/getliterature.tsp?genericPartNumber=tps61187&fileType=pdf; ComponentLink3Description: Package Specification; ComponentLink3URL: http://www.ti.com/litv/pdf/mpqf156e
footprint TI-RTJ20-2700X2700TP_V (QFN, 20-Leads, Body 4x4mm, Pitch 0.5mm, Thermal Pad 2.7x2.7mm)
pins: 1 VDDIO (power) "Internal pre_regulator. Connect a 1.0 uF ceramic capacitor to VDDIO.", 2 EN (in) "Enable", 3 FSLCT (in) "Switching frequency selection pin. Use a resistor to set the frequency between 300kHz to 1.0MHz", 4 ISET (in) "Full-scale LED current set pin. Connecting a resistor to the pin programs the current level.", 5 FPO (oc) "Fault protection output to indicate fault conditions including OVP, OC, and OT", 6 IFB6 (in) "Regulated current sink input pin", 7 IFB5 (in) "Regulated current sink input pin", 8 IFB4 (in) "Regulated current sink input pin", 9 GND (power) "Analog ground", 10 IFB3 (in) "Regulated current sink input pin", 11 IFB2 (in) "Regulated current sink input pin", 12 IFB1 (in) "Regulated current sink input pin", 13 RFPWM/MODE (in) "Dimming frequency program pin with an external resistor / mode selection", 14 OVC (in) "Over-voltage clamp pin / voltage feedback", 15 PGND (power) "Power ground", 16 SW (power) "Drain connection of the internal power FET", 17 NC "No connection", 18 FAULT (out) "Fault pin to drive external ISO FET", 19 VIN (power) "Supply input pin", 20 PWM (in) "PWM signal input pin", 21 EP (power) "Thermal pad need to be soldered on to the PCB and connected to the GND pin of the IC"

## TPS61195RUYR
designator U?
96 LED, 8-Channel White LED Driver for LCD Backlight with SMBus Interface, 4.5 to 21 V, -40 to 85 degC, 28-pin QFN (RUY28), Green (RoHS & no Sb/Br); Manufacturer: Texas Instruments; PartNumber: TPS61195RUYR; Dimming: TRUE; Iout(Max)(A): 0.24; Iq(Typ)(mA): 3; Rating: Catalog; Switching Frequency(Max)(kHz): 1000; Topology: Boost; Vin(Max)(V): 21; Vin(Min)(V): 4.5; DatasheetVersion: SLVSA07A; PackageVersion: 4209428/B; PackageReference: RUY28-2600X2600TP; PackageDescription: 28-Lead, Plastic Flat Pack, Body Size 4 x 4 mm, Pitch 0.4 mm; Supplier 1: Digi-Key; Supplier Part Number 1: TPS61195RUYR-ND; Supplier 2: Newark; Supplier Part Number 2: 79R8569; Supplier 3: Mouser; Supplier Part Number 3: 595-TPS61195RUYR; Eco-Plan: Green (RoHS & no Sb/Br); SubFamily: White LED Driver; Mounting Technology: Surface Mount; ComponentLink1Description: Manufacturer URL; ComponentLink1URL: http://www.ti.com/; ComponentLink2Description: Datasheet; ComponentLink2URL: http://www.ti.com/general/docs/lit/getliterature.tsp?genericPartNumber=TPS61195&fileType=pdf; ComponentLink3Description: Package Specification; ComponentLink3URL: http://www.ti.com/litv/pdf/mpqf229a
footprint TI-RUY28-2600X2600TP_V (QFN, 28-Leads, Body 4x4mm, Pitch 0.4mm, Thermal Pad 2.6x2.6mm)
pins: 1 DPWM (in) "PWM signal input pin. The frequency of PWM signal must be in the range of 200Hz to 20kHz", 2 SEL1 (in) "Dimming mode selection pin. See Table 1 for a detailed explanation.", 3 SEL2 (in) "Dimming mode selection pin. See Table 1 for a detailed explanation.", 4 VDDIO (power) "Serial bus voltage level pin. This pin should only have the recommended capacitive load.", 5 SDA (io) "SMBus data input/output pin", 6 SCL (in) "SMBus clock input pin", 7 IFB1 (in) "Regulated 30mA typical current sink input pins. Connect the cathode of the last LED in each of the eight strings to one of these pins.", 8 IFB2 (in) "Regulated 30mA typical current sink input pins. Connect the cathode of the last LED in each of the eight strings to one of these pins.", 9 IFB3 (in) "Regulated 30mA typical current sink input pins. Connect the cathode of the last LED in each of the eight strings to one of these pins.", 10 IFB4 (in) "Regulated 30mA typical current sink input pins. Connect the cathode of the last LED in each of the eight strings to one of these pins.", 11 AGND (power) "Analog ground", 12 IFB5 (in) "Regulated 30mA typical current sink input pins. Connect the cathode of the last LED in each of the eight strings to one of these pins.", 13 IFB6 (in) "Regulated 30mA typical current sink input pins. Connect the cathode of the last LED in each of the eight strings to one of these pins.", 14 IFB7 (in) "Regulated 30mA typical current sink input pins. Connect the cathode of the last LED in each of the eight strings to one of these pins.", 15 IFB8 (in) "Regulated 30mA typical current sink input pins. Connect the cathode of the last LED in each of the eight strings to one of these pins.", 16 NC "AGND internal. External to AGND is recommended.", 17 ISET (in) "Full-scale LED current set pin. Connecting a resistor from this pin to AGND programs the maximum current level.", 18 FDIM (in) "Dimming frequency program pin with an external resistor. Connecting a resistor from this pin to AGND programs the internal PWM dimming frequency.", 19 NC "AGND internal. External track tie to AGND is recommended.", 20 PGND2 (power) "Power ground", 21 PGND1 (power) "Power ground", 22 OVP (in) "Over-voltage program pin. A resistor divider between the boost converter output to AGND, with mid point tied to this pin sets the over-voltage protection threshold.", 23 SW2 (power) "Drain connection of the internal power FET", 24 SW1 (power) "Drain connection of the internal power FET", 25 EN (in) "SDAble and Disable Pin. EN high = SDAble, EN low = Disable and de-actives SMBus interface.", 26 VIN (power) "Supply input pin", 27 FSW (in) "Switching frequency select pin. Use a resistor to set the frequency between 600kHz to 1.0MHz", 28 FDPWM (in) "Place a 43.2k ohm resistor from this pin to AGND programming the internal clock for counting PWM input duty cycle.", 29 EP (power) "Exposed Thermal Pad"